# Altium schematic symbol library Components.SchLib: 21 symbols
Pins are listed as number, name and electrical type; pins without a type are passive.

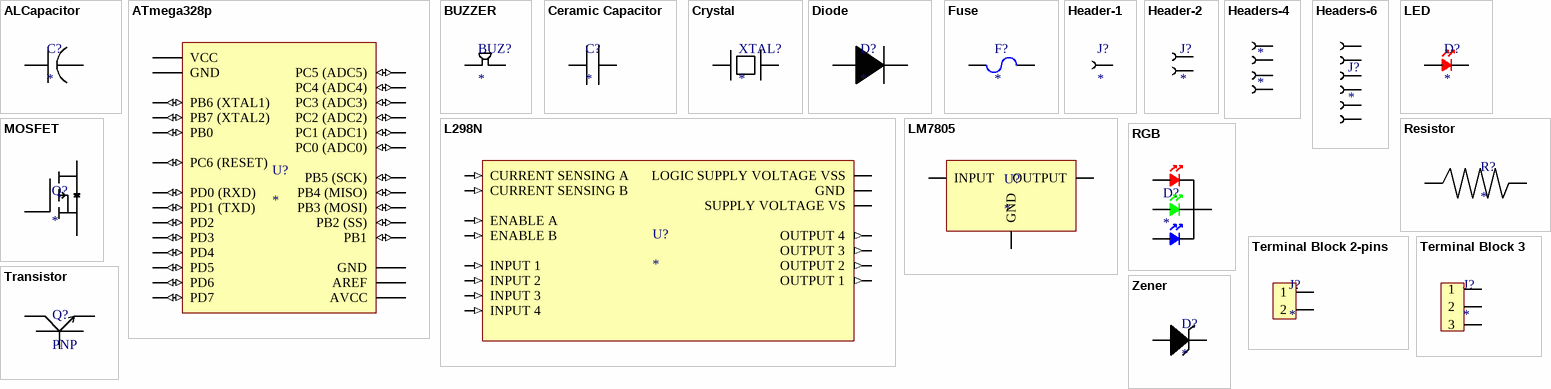
[diagram p0: symbols ALCapacitor to Zener]

## ALCapacitor
designator C?
Value: *
footprint ALCap.
pins: 1 6, 2 7

## ATmega328p
designator U?
PN: ATmega328PU; MF: ATmel; ComponentLink1Description: link; ComponentLink1URL: https://electra.store/product/atmega328pu/; Supplier: Electra
footprint ATmega328PU
pins: 1 PC6 (RESET) (io), 2 PD0 (RXD) (io), 3 PD1 (TXD) (io), 4 PD2 (io), 5 PD3 (io), 6 PD4 (io), 7 VCC (power), 8 GND (power), 9 PB6 (XTAL1) (io), 10 PB7 (XTAL2) (io), 11 PD5 (io), 12 PD6 (io), 13 PD7 (io), 14 PB0 (io), 15 PB1 (io), 16 PB2 (SS) (io), 17 PB3 (MOSI) (io), 18 PB4 (MISO) (io), 19 PB5 (SCK) (io), 20 AVCC (power), 21 AREF (power), 22 GND (power), 23 PC0 (ADC0) (io), 24 PC1 (ADC1) (io), 25 PC2 (ADC2) (io), 26 PC3 (ADC3) (io), 27 PC4 (ADC4) (io), 28 PC5 (ADC5) (io)

## BUZZER
designator BUZ?
footprint Buzzer
pins: 1, 2

## Ceramic Capacitor
designator C?
footprint Ceramic Cap
pins: 1, 2

## Crystal
designator XTAL?
Value: *
footprint Crystal
pins: 1, 2

## Diode
designator D?
MF PN: 2A07; MF: *; Supplier: Electra; Supplier PN: 2A07; ComponentLink1Description: New link; ComponentLink1URL: https://electra.store/product/2a07-700v-2a-diode/
footprint 2A07
pins: 1  , 2  

## Fuse
designator F?
Value: *
footprint Fuse Base
pins: 1 15, 2 16

## Header-1
designator J?
footprint Header-1
pins: 1  

## Header-2
designator J?
footprint Headers 2-Pins
pins: 1  , 2  

## Headers-4
designator *
footprint Headers-4
pins: 1  , 2  , 3  , 4  

## Headers-6
designator J?
footprint Headers 6-pins
pins: 1  , 2  , 3  , 4  , 5  , 6  

## L298N
designator U?
PN: L298N; Supplier: Electra; Supplier PN: *; MF: *; ComponentLink1Description: Link; ComponentLink1URL: https://electra.store/product/l298-dip-dual-full-bridge-driver/
footprint L298N
pins: 1 CURRENT SENSING A (in), 2 OUTPUT 1 (out), 3 OUTPUT 2 (out), 4 SUPPLY VOLTAGE VS (power), 5 INPUT 1 (in), 6 ENABLE A (in), 7 INPUT 2 (in), 8 GND (power), 9 LOGIC SUPPLY VOLTAGE VSS (power), 10 INPUT 3 (in), 11 ENABLE B (in), 12 INPUT 4 (in), 13 OUTPUT 3 (out), 14 OUTPUT 4 (out), 15 CURRENT SENSING B (in)

## LED
designator D?
footprint LED5MM
pins: A, K

## LM7805
designator U?
PN: LM7805; Supplier: Makers; ComponentLink1Description: link; ComponentLink1URL: https://makerselectronics.com/product/regelator-7805
footprint LM7805
pins: 1 INPUT (power), 2 GND (power), 3 OUTPUT (power)

## MOSFET
designator Q?
P-Channel; PN: IRF9540N; MF: *; Supplier: Makers; Supplier PN: 14721190833f; ComponentLink1Description: link; ComponentLink1URL: https://makerselectronics.com/product/irf9540
footprint IRF9540
pins: D Drain, G Gate, S Source

## Resistor
designator R?
footprint resistor
pins: 1 13, 2 14

## RGB
designator D?
footprint RGB
pins: B, C, G, R

## Terminal Block 2-pins
designator J?
PN: 1935161; MF: Phoenix Contact; Supplier: Digikey; Supplier PN: 277-1667-ND
footprint Terminal Block 2-pins (Throwhole)
footprint Terminal Block 2 Plugable
pins: 1, 2

## Terminal Block 3
designator J?
footprint Terminal Block 3
footprint Terminal Block 3
pins: 1, 2, 3

## Transistor
designator Q?, comment PNP
pins: 1 13, 2 12, 3 14

## Zener
designator D?
footprint Zener10
pins: 1 anode, 2 Cath